# EAGLE library part RT8299 (library 2000dB)
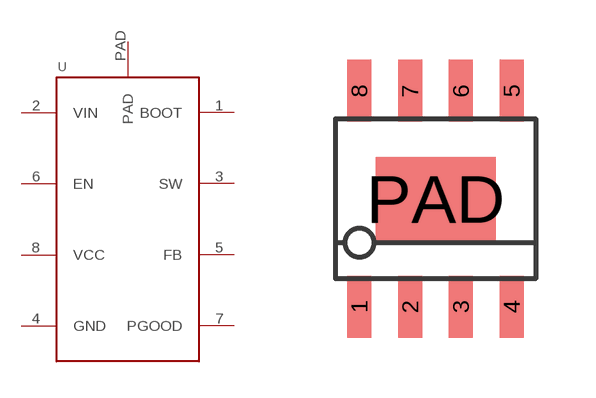
[diagram p8: symbol with the pads of SOP-8; footprint SOP-8]

Designator prefix -

## RT8299  [SOP-8]
1  BOOT
2  VIN
3  SW
4  GND
5  FB
6  EN
7  PGOOD
8  VCC
PAD  PAD

## Footprint SOP-8 (pad centres in mm)
smd 0.6 x 1.55: 1 -1.905,-2.7; 2 -0.635,-2.7; 3 0.635,-2.7; 4 1.905,-2.7; 5 1.905,2.7; 6 0.635,2.7; 7 -0.635,2.7; 8 -1.905,2.7
smd 3 x 2.1: PAD 0,0